# Altium footprint library zyx.PcbLib: 17 footprints (part 1 of 4)
Each footprint in its own frame and in the unit in brackets; x right, y up, seen from the top. Pads: shape width x height; smd on the part's side, far side on the other; paste and mask are expansions set on the pad; w line width, h text height; cw(c..) or ccw(c..) is an arc to the next point about the centre after c.
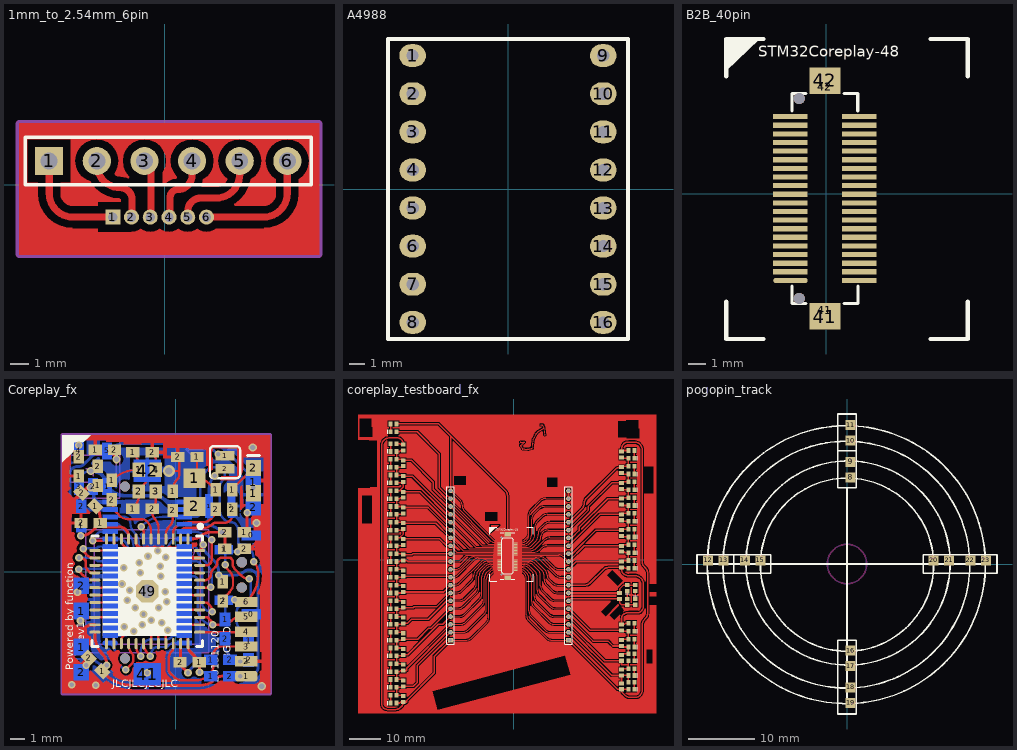
[diagram p0: the footprints below, top view; thin cyan lines are the x and y axes]

## 1mm_to_2.54mm_6pin [mm]
pads (12):
  rect 1.5x1.5 hole 0.9: 1(-6.165,1.27)
  rect 0.8x0.8 hole 0.5: 1(-2.775,-1.725)
  round 1.5 hole 0.9: 2(-3.625,1.27) 3(-1.085,1.27) 4(1.455,1.27) 5(3.995,1.27) 6(6.535,1.27)
  round 0.8 hole 0.5: 2(-1.775,-1.725) 3(-0.775,-1.725) 4(0.225,-1.725) 5(1.225,-1.725) 6(2.225,-1.725)
Top Layer:
  region: 4 vertices and 1 holes, not listed, extent -7.775,-3.725 8.225,3.275
  lines w0.381: -6.089,1.194 ccw(c-6.165,1.194) -6.165,1.27 -6.165,-0.455 ccw(c-4.895,-0.455) -4.895,-1.725 -2.775,-1.725 ; -3.625,1.27 -3.625,1.092 ccw(c-2.38,1.092) -2.38,-0.152 cw(c-2.38,-0.787) -1.745,-0.787 -1.745,-1.695 cw(c-1.775,-1.695) -1.775,-1.725 ; -1.085,1.27 cw(c-1.085,0.914) -0.729,0.914 -0.729,-1.679 cw(c-0.775,-1.679) -0.775,-1.725 ; 0.225,-1.725 ccw(c0.225,-1.663) 0.287,-1.663 0.287,-0.66 cw(c0.693,-0.66) 0.693,-0.254 ccw(c0.693,0.508) 1.455,0.508 1.455,1.27 ; 1.225,-1.725 ccw(c1.225,-1.724) 1.226,-1.724 1.226,-1.397 cw(c1.912,-1.397) 1.912,-0.711 2.725,-0.711 ccw(c2.725,0.559) 3.995,0.559 3.995,1.27 ; 2.225,-1.725 5.265,-1.725 ccw(c5.265,-0.455) 6.535,-0.455 6.535,1.27
Top Overlay:
  lines w0.2: -7.435,0 -7.435,2.54 7.805,2.54 7.805,0 -7.435,0
Mechanical 1:
  lines w0.381: -7.775,-3.725 8.225,-3.725 8.225,3.275 -7.775,3.275 -7.775,-3.725

## A4988 [mil]
pads (16):
  oval 70x60 hole 32: 1(-250.39,350) 2(-250,250) 3(-250,150) 4(-250,50) 5(-250,-50) 6(-250,-150) 7(-250,-250) 8(-250,-350) 9(250,350) 10(250,250) 11(250,150) 12(250,50) 13(250,-50) 14(250,-150) 15(250,-250) 16(250,-350)
Top Overlay:
  lines w10: -314.96,-393.7 -314.96,393.7 314.96,393.7 314.96,-393.7 -314.96,-393.7

## B2B_40pin [mm]
pads (84):
  rrect100% 1x0.3 smd: 1(-2.575,-5.025)
  rrect100% 1.6x0.3 smd: 1(-1.875,-5.025)
  rect 1.6x0.3 smd: 2(1.725,-5.025) 3(-1.875,-4.525) 4(1.725,-4.525) 5(-1.875,-4.025) 6(1.725,-4.025) 7(-1.875,-3.525) 8(1.725,-3.525) 9(-1.875,-3.025) 10(1.725,-3.025) 11(-1.875,-2.525) 12(1.725,-2.525) 13(-1.875,-2.025) 14(1.725,-2.025) 15(-1.875,-1.525) 16(1.725,-1.525) 17(-1.875,-1.025) 18(1.725,-1.025) 19(-1.875,-0.525) 20(1.725,-0.525) 21(-1.875,-0.025) 22(1.725,-0.025) 23(-1.875,0.475) 24(1.725,0.475) 25(-1.875,0.975) 26(1.725,0.975) 27(-1.875,1.475) 28(1.725,1.475) 29(-1.875,1.975) 30(1.725,1.975) 31(-1.875,2.475) 32(1.725,2.475) 33(-1.875,2.975) 34(1.725,2.975) 35(-1.875,3.475) 36(1.725,3.475) 37(-1.875,3.975) 38(1.725,3.975) 39(-1.875,4.475) 40(1.725,4.475)
  rect 1x0.3 smd: 2(2.425,-5.025) 3(-2.575,-4.525) 4(2.425,-4.525) 5(-2.575,-4.025) 6(2.425,-4.025) 7(-2.575,-3.525) 8(2.425,-3.525) 9(-2.575,-3.025) 10(2.425,-3.025) 11(-2.575,-2.525) 12(2.425,-2.525) 13(-2.575,-2.025) 14(2.425,-2.025) 15(-2.575,-1.525) 16(2.425,-1.525) 17(-2.575,-1.025) 18(2.425,-1.025) 19(-2.575,-0.525) 20(2.425,-0.525) 21(-2.575,-0.025) 22(2.425,-0.025) 23(-2.575,0.475) 24(2.425,0.475) 25(-2.575,0.975) 26(2.425,0.975) 27(-2.575,1.475) 28(2.425,1.475) 29(-2.575,1.975) 30(2.425,1.975) 31(-2.575,2.475) 32(2.425,2.475) 33(-2.575,2.975) 34(2.425,2.975) 35(-2.575,3.475) 36(2.425,3.475) 37(-2.575,3.975) 38(2.425,3.975) 39(-2.575,4.475) 40(2.425,4.475)
  rect 1.8x1.5 smd: 41(-0.075,-7.125) 42(-0.075,6.575)
  rect 1.8x0.85 smd: 41(-0.075,-6.75) 42(-0.075,6.2)
via -1.575,-6.075 diameter 0.66 hole 0.66
via -1.575,5.525 diameter 0.66 hole 0.66
Top Overlay:
  region: -5.797,8.978 -3.897,8.978 -5.797,7.14
  lines w0.178: -1.975,-5.355 -1.975,-6.375 -1.167,-6.375 ; -1.975,4.805 -1.975,5.825 -1.167,5.825 ; 1.017,5.825 1.825,5.825 1.825,4.805 ; 1.043,-6.375 1.85,-6.375 1.85,-5.355
  lines w0.254: -5.797,-6.262 -5.798,-8.423 -3.637,-8.423 ; -5.798,6.817 -5.797,8.978 -3.637,8.978 ; 6.042,-8.422 8.203,-8.422 8.203,-6.262 ; 6.042,8.978 8.203,8.978 8.202,6.817
  text "STM32Coreplay-48" at -3.943,7.935 h0.64

## Coreplay_fx [mm]
pads (168):
  rect 1.3x0.65 smd far side: 0(5.074,-2.861) 0(5.074,2.439)
  rect 0.7x0.9 smd: 1(-6.53,6.441) 1(-5.26,5.806) 1(-4.307,6.154) 1(-0.212,5.424) 1(2.678,5.519) 1(3.154,-0.672) 1(3.789,5.519) 2(-6.53,7.741) 2(-5.26,7.106) 2(-4.307,4.854) 2(-0.212,4.124) 2(2.678,4.219) 2(3.154,-1.972) 2(3.789,4.219)
  rect 1x1.1 smd far side: 1(-6.371,-5.076) 1(-6.371,-2.649) 1(5.218,6.036) 2(-6.371,-6.776) 2(-6.371,-0.949) 2(5.218,4.336)
  rect 0.7x0.9 smd far side: 1(-6.371,3.108) 1(3.313,-3.212) 1(4.9,-4.641) 2(-6.371,4.408) 2(3.313,-4.512) 2(4.9,-5.941)
  rect 0.7x0.9 smd rot 45: 1(-5.435,4.409) 1(-4.959,-6.703) 2(-6.354,5.329) 2(-5.878,-5.784)
  rect 0.9x0.7 smd: 1(-5.433,8.203) 1(-5.086,3.281) 1(-2.893,4.234) 1(-2.893,8.044) 1(1.423,7.726) 1(1.581,-6.085) 1(3.298,1.535) 1(4.598,2.646) 2(-6.386,3.281) 2(-4.133,8.203) 2(-1.593,4.234) 2(-1.593,8.044) 2(0.123,7.726) 2(0.281,-6.085) 2(3.298,2.646) 2(4.598,1.535)
  rect 0.65x1.1 smd far side: 1(-4.627,5.733) 2(-5.577,5.733) 3(-6.527,5.733) 4(-6.527,8.133) 5(-4.627,8.133)
  rrect100% 1x0.3 smd far side: 1(-4.426,-4.802)
  rect 0.85x0.95 smd: 1(-2.501,6.864) 2(-2.501,5.414) 3(-1.351,5.414) 4(-1.351,6.864)
  oval 0.2x0.75 smd: 1(0.824,2.203) 2(0.324,2.203) 3(-0.176,2.203) 4(-0.676,2.203) 5(-1.176,2.203) 6(-1.676,2.203) 7(-2.176,2.203) 8(-2.676,2.203) 9(-3.176,2.203) 10(-3.676,2.203) 11(-4.176,2.203) 12(-4.676,2.203) 25(-4.676,-4.847) 26(-4.176,-4.847) 27(-3.676,-4.847) 28(-3.176,-4.847) 29(-2.676,-4.847) 30(-2.176,-4.847) 31(-1.676,-4.847) 32(-1.176,-4.847) 33(-0.676,-4.847) 34(-0.176,-4.847) 35(0.324,-4.847) 36(0.824,-4.847)
  rect 1.5x1.3 smd: 1(1.249,6.295) 2(1.249,4.395)
  rect 0.5x1.6 smd far side: 1(2.245,4.421)
  rect 0.9x0.7 smd far side: 1(2.345,-7.037) 1(2.345,-5.926) 2(3.645,-7.037) 2(3.645,-5.926)
  rect 1.2x0.6 smd far side: 1(3.224,1.489) 2(3.224,-1.911)
  rect 1.27x0.635 smd: 1(3.313,7.822) 2(3.313,6.933)
  rrect50% 1.5x0.7 smd: 1(4.741,-7.037)
  rect 1x1.1 smd: 1(5.218,5.289) 2(5.218,6.989)
  rect 1x0.3 smd far side: 2(0.574,-4.802) 3(-4.426,-4.302) 4(0.574,-4.302) 5(-4.426,-3.802) 6(0.574,-3.802) 7(-4.426,-3.302) 8(0.574,-3.302) 9(-4.426,-2.802) 10(0.574,-2.802) 11(-4.426,-2.302) 12(0.574,-2.302) 13(-4.426,-1.802) 14(0.574,-1.802) 15(-4.426,-1.302) 16(0.574,-1.302) 17(-4.426,-0.802) 18(0.574,-0.802) 19(-4.426,-0.302) 20(0.574,-0.302) 21(-4.426,0.198) 22(0.574,0.198) 23(-4.426,0.698) 24(0.574,0.698) 25(-4.426,1.198) 26(0.574,1.198) 27(-4.426,1.698) 28(0.574,1.698) 29(-4.426,2.198) 30(0.574,2.198) 31(-4.426,2.698) 32(0.574,2.698) 33(-4.426,3.198) 34(0.574,3.198) 35(-4.426,3.698) 36(0.574,3.698) 37(-4.426,4.198) 38(0.574,4.198) 39(-4.426,4.698) 40(0.574,4.698)
  rrect50% 0.5x1.6 smd far side: 2(3.745,4.421)
  rect 1.5x0.7 smd: 2(4.741,-6.037) 3(4.741,-5.037) 4(4.741,-4.037) 5(4.741,-3.037) 6(4.741,-2.037)
  oval 0.75x0.2 smd: 13(-5.451,1.428) 14(-5.451,0.928) 15(-5.451,0.428) 16(-5.451,-0.072) 17(-5.451,-0.572) 18(-5.451,-1.072) 19(-5.451,-1.572) 20(-5.451,-2.072) 21(-5.451,-2.572) 22(-5.451,-3.072) 23(-5.451,-3.572) 24(-5.451,-4.072) 37(1.599,-4.072) 38(1.599,-3.572) 39(1.599,-3.072) 40(1.599,-2.572) 41(1.599,-2.072) 42(1.599,-1.572) 43(1.599,-1.072) 44(1.599,-0.572) 45(1.599,-0.072) 46(1.599,0.428) 47(1.599,0.928) 48(1.599,1.428)
  rect 1.8x1.5 smd far side: 41(-1.926,-6.902) 42(-1.926,6.798)
  oct 1.5x1.5 hole 0.9: 49(-1.926,-1.322)
via 5.783,-7.71 diameter 0.554 hole 0.35
via 5.224,5.65 diameter 0.508 hole 0.3
via 4.792,3.986 diameter 0.508 hole 0.3
via 5.173,8.368 diameter 0.554 hole 0.35
via -1.215,1.408 diameter 0.508 hole 0.3
via -2.726,-2.427 diameter 0.508 hole 0.3
via -3.107,-1.259 diameter 0.508 hole 0.3
via -3.628,-0.827 diameter 0.508 hole 0.3
via -3.285,-1.932 diameter 0.508 hole 0.3
via -2.18,-2.859 diameter 0.508 hole 0.3
via -2.269,-3.558 diameter 0.508 hole 0.3
via -3.488,-3.697 diameter 0.508 hole 0.3
via -2.828,-4.015 diameter 0.508 hole 0.3
via -3.361,-6.593 diameter 0.508 hole 0.3
via -2.371,-5.691 diameter 0.508 hole 0.3
via -1.71,-5.691 diameter 0.508 hole 0.3
via -0.542,-3.951 diameter 0.508 hole 0.3
via -0.961,-3.431 diameter 0.508 hole 0.3
via -1.659,-3.278 diameter 0.508 hole 0.3
via -1.164,-2.415 diameter 0.508 hole 0.3
via -0.618,-2.034 diameter 0.508 hole 0.3
via -0.72,-1.36 diameter 0.508 hole 0.3
via -1.024,-0.319 diameter 0.508 hole 0.3
via 2.481,-3.57 diameter 0.508 hole 0.3
via 2.455,-2.707 diameter 0.508 hole 0.3
via -1.05,0.379 diameter 0.508 hole 0.3
via -0.681,0.976 diameter 0.508 hole 0.3
via 2.417,2.145 diameter 0.508 hole 0.3
via -1.875,1.027 diameter 0.508 hole 0.3
via -2.459,0.595 diameter 0.508 hole 0.3
via -6.409,2.424 diameter 0.508 hole 0.3
via -5.609,2.094 diameter 0.508 hole 0.3
via -2.383,-0.078 diameter 0.508 hole 0.3
via -6.244,1.561 diameter 0.508 hole 0.3
via -3.501,0.265 diameter 0.508 hole 0.3
via -6.536,0.151 diameter 0.508 hole 0.3
via -6.523,0.938 diameter 0.508 hole 0.3
via -6.422,-3.304 diameter 0.508 hole 0.3
via 1.846,1.802 diameter 0.508 hole 0.3
via 2.9,-0.23 diameter 0.508 hole 0.3
via 1.592,-6.758 diameter 0.508 hole 0.3
via 0.817,-6.796 diameter 0.508 hole 0.3
via 2.608,6.463 diameter 0.508 hole 0.3
via -2.32,3.034 diameter 0.508 hole 0.3
via 4.348,-7.05 diameter 0.508 hole 0.3
via 4.348,-6.047 diameter 0.508 hole 0.3
via 5.237,0.684 diameter 0.508 hole 0.3
via 4.957,-0.484 diameter 0.508 hole 0.3
via 2.849,7.898 diameter 0.508 hole 0.3
via -4.669,-6.301 diameter 0.508 hole 0.3
via -0.466,6.78 diameter 0.805 hole 0.5
via -6.041,-6.288 diameter 0.508 hole 0.3
via 2.341,-1.056 diameter 0.508 hole 0.3
via 3.332,0.456 diameter 0.508 hole 0.3
via 5.427,3.275 diameter 0.554 hole 0.35
via 3.967,-1.881 diameter 0.508 hole 0.3
via 4.157,1.357 diameter 0.508 hole 0.3
via 3.103,2.665 diameter 0.508 hole 0.3
via -1.926,-6.809 diameter 0.508 hole 0.3
via -5.406,-7.634 diameter 0.508 hole 0.3
via -7.006,-7.609 diameter 0.508 hole 0.3
via -6.625,-1.373 diameter 0.508 hole 0.3
via -6.53,8.52 diameter 0.508 hole 0.3
via -3.99,7.568 diameter 0.554 hole 0.35
via -5.736,6.774 diameter 0.554 hole 0.35
via -5.749,5.688 diameter 0.554 hole 0.35
via 4.424,0.639 diameter 0.7 hole 0.7
via 4.424,-1.061 diameter 0.7 hole 0.7
via -3.426,5.748 diameter 0.66 hole 0.66
via -3.426,-5.852 diameter 0.66 hole 0.66
Top Layer:
  region: 4 vertices and 5 holes, not listed, extent -7.649,-8.2 6.351,9.2
  region: -0.858,-5.304 -0.774,-5.36 -0.709,-5.373 -0.658,-5.468 -0.653,-5.495 -0.703,-5.615 -0.733,-5.846 -0.73,-5.846 -0.73,-6.545 -0.732,-6.545 -0.709,-6.717 -0.643,-6.876 -0.538,-7.013 -0.537,-7.012 -0.279,-7.27 -0.282,-7.273 -0.275,-7.278 -0.316,-7.398 -2.953,-7.398 -2.964,-7.401 -3.398,-7.358 -3.827,-7.228 -4.156,-7.052 -4.182,-7.013 -4.205,-6.998 -4.207,-6.981 -4.231,-6.966 -4.243,-6.839 -4.178,-6.774 -4.369,-6.583 -4.286,-6.459 -4.255,-6.301 -4.286,-6.142 -4.376,-6.008 -4.425,-5.975 -4.435,-5.905 -4.561,-5.6 -4.65,-5.484 -4.605,-5.366 -4.578,-5.36 -4.494,-5.304 -4.49,-5.297 -4.362,-5.297 -4.358,-5.304 -4.274,-5.36 -4.176,-5.38 -4.078,-5.36 -3.994,-5.304 -3.99,-5.297 -3.863,-5.297 -3.858,-5.304 -3.774,-5.36 -3.77,-5.361 -3.745,-5.485 -3.774,-5.505 -3.88,-5.664 -3.918,-5.852 -3.88,-6.041 -3.774,-6.2 -3.654,-6.28 -3.654,-6.3 -3.744,-6.434 -3.775,-6.593 -3.744,-6.751 -3.654,-6.886 -3.52,-6.976 -3.361,-7.007 -3.203,-6.976 -3.068,-6.886 -2.978,-6.751 -2.947,-6.593 -2.946,-6.593 -2.931,-6.522 -2.891,-6.462 -2.893,-6.46 -2.813,-6.379 -2.709,-6.242 -2.653,-6.109 -2.532,-6.072 -2.529,-6.074 -2.371,-6.105 -2.212,-6.074 -2.078,-5.984 -2.003,-5.984 -1.869,-6.074 -1.71,-6.105 -1.552,-6.074 -1.417,-5.984 -1.327,-5.85 -1.296,-5.691 -1.327,-5.533 -1.397,-5.428 -1.307,-5.338 -1.274,-5.36 -1.176,-5.38 -1.078,-5.36 -0.994,-5.304 -0.99,-5.297 -0.863,-5.297
  region: 1.448,1.884 1.432,1.802 1.435,1.783 1.355,1.685 1.324,1.685 1.226,1.665 1.142,1.61 1.086,1.526 1.067,1.428 1.086,1.329 1.099,1.311 1.074,1.186 1.069,1.183 0.991,1.066 0.988,1.055 1.599,1.055 1.599,0.801 0.988,0.801 0.991,0.79 1.069,0.672 1.074,0.669 1.099,0.545 1.086,0.526 1.067,0.428 1.086,0.329 1.12,0.279 1.06,0.167 0.766,0.167 0.766,0.168 0.476,0.197 0.196,0.282 -0.061,0.419 -0.287,0.604 -0.288,0.604 -0.292,0.607 -0.352,0.696 -0.326,0.757 -0.33,0.771 -0.299,0.818 -0.267,0.976 -0.299,1.135 -0.388,1.269 -0.523,1.359 -0.681,1.391 -0.84,1.359 -0.974,1.269 -1.064,1.135 -1.096,0.976 -1.077,0.88 -1.147,0.774 -1.208,0.762 -1.343,0.672 -1.433,0.538 -1.464,0.379 -1.433,0.221 -1.343,0.086 -1.317,0.07 -1.317,-0.026 -1.407,-0.16 -1.439,-0.318 -1.917,-0.318 -1.997,-0.22 -1.969,-0.078 -2,0.081 -2.09,0.215 -2.108,0.227 -2.133,0.352 -2.077,0.437 -2.045,0.595 -1.916,0.621 -1.875,0.613 -1.717,0.644 -1.582,0.734 -1.492,0.869 -1.461,1.027 -1.492,1.186 -1.582,1.32 -1.717,1.41 -1.875,1.442 -2.034,1.41 -2.037,1.408 -2.038,1.408 -2.055,1.402 -2.098,1.407 -2.105,1.409 -2.106,1.408 -2.218,1.423 -2.218,1.422 -2.223,1.421 -2.42,1.46 -2.485,1.503 -2.485,1.63 -2.421,1.672 -2.417,1.677 -2.293,1.702 -2.274,1.69 -2.176,1.67 -2.078,1.69 -1.994,1.746 -1.99,1.753 -1.862,1.753 -1.858,1.746 -1.774,1.69 -1.676,1.67 -1.578,1.69 -1.494,1.746 -1.49,1.753 -1.363,1.753 -1.358,1.746 -1.274,1.69 -1.176,1.67 -1.078,1.69 -0.994,1.746 -0.99,1.753 -0.863,1.753 -0.858,1.746 -0.774,1.69 -0.676,1.67 -0.578,1.69 -0.494,1.746 -0.49,1.753 -0.363,1.753 -0.358,1.746 -0.274,1.69 -0.176,1.67 -0.078,1.69 0.006,1.746 0.01,1.753 0.137,1.753 0.142,1.746 0.226,1.69 0.324,1.67 0.422,1.69 0.506,1.746 0.51,1.753 0.637,1.753 0.642,1.746 0.726,1.69 0.824,1.67 0.922,1.69 1.006,1.746 1.062,1.829 1.081,1.928 1.081,1.953 1.177,1.953 1.361,1.977
  lines w0.152: -4.307,4.854 ccw(c-2.933,4.854) -3.905,3.882 -3.78,3.758 ccw(c-3.259,4.279) -3.259,3.542 -2.325,3.542 cw(c-2.325,2.978) -1.926,3.377 cw(c-2.53,2.773) -1.676,2.773 -1.676,2.203 ; -4.307,6.154 cw(c-2.593,4.44) -2.593,6.864 -2.501,6.864 -2.501,7.096 ccw(c-3.841,7.096) -2.893,8.044 cw(c-3.075,7.863) -2.819,7.863 ; -2.819,5.414 cw(c-2.318,5.414) -2.672,5.768 ; -1.669,6.864 ccw(c-1.85,7.045) -1.593,7.045 ; -1.593,8.044 cw(c-2.179,7.459) -1.351,7.459 -1.351,6.864 ; -1.351,5.414 -1.351,4.819 cw(c-2.179,4.819) -1.593,4.234 -1.593,3.991 ccw(c-0.994,3.991) -1.418,3.567 cw(c-2.002,2.983) -1.176,2.983 -1.176,2.203 ; -0.667,6.864 cw(c-0.667,6.578) -0.466,6.781 ; -0.212,5.424 -0.212,5.491 cw(c0.786,5.491) 0.081,6.196 ccw(c-0.287,6.564) 0.233,6.564 0.233,6.793 ; 0.123,7.726 cw(c-0.143,7.46) 0.233,7.46 0.233,6.793 ; 2.212,-1.072 ccw(c2.212,-1.015) 2.252,-1.056 ; -0.466,6.78 ccw(c-0.667,6.578) -0.466,6.781 ; -0.466,6.78 0.202,6.78 ccw(c0.202,6.824) 0.233,6.793
  lines w0.165: -6.536,0.151 ccw(c-6.291,0.151) -6.464,-0.023 -6.242,-0.245 ccw(c-5.451,0.547) -5.451,-0.572 -5.565,-0.572 ; -6.53,7.741 -6.53,8.52 ; -6.431,0.938 -6.523,0.938 cw(c-6.523,0.35) -6.108,0.766 cw(c-6.221,0.653) -6.061,0.653 -6.061,0.407 ccw(c-5.645,0.407) -5.939,0.113 -5.833,0.007 ccw(c-5.643,0.197) -5.643,-0.072 -5.451,-0.072 ; -6.244,1.561 ccw(c-5.815,1.561) -6.118,1.257 -6.028,1.167 ccw(c-5.451,1.743) -5.451,0.928 ; -5.609,2.094 -4.938,2.094 ccw(c-4.938,2.465) -4.676,2.203 ; -5.451,-3.072 -4.896,-3.072 ccw(c-4.896,-2.517) -4.504,-2.91 cw(c-4.181,-3.233) -4.181,-2.776 -3.304,-2.776 cw(c-3.304,-3.183) -3.016,-2.895 -2.886,-3.026 -2.886,-3.026 ; -5.451,-2.572 -4.874,-2.572 ccw(c-4.874,-2.337) -4.707,-2.503 cw(c-4.565,-2.646) -4.565,-2.444 -2.768,-2.444 ccw(c-2.768,-2.386) -2.726,-2.427 ; -5.451,-2.072 -3.593,-2.072 ccw(c-3.593,-1.667) -3.307,-1.954 ; -5.451,-1.572 -3.999,-1.572 ccw(c-3.999,-1.066) -3.641,-1.424 cw(c-3.242,-1.822) -3.242,-1.259 -3.107,-1.259 ; -5.451,-1.072 -4.805,-1.072 ccw(c-4.805,-0.538) -4.428,-0.916 cw(c-4.213,-1.131) -4.213,-0.827 -3.628,-0.827 ; -5.451,0.428 -4.405,0.428 cw(c-4.405,0.046) -4.136,0.316 ccw(c-4.013,0.439) -4.013,0.265 -3.501,0.265 ; -5.451,1.428 -4.861,1.428 cw(c-4.861,0.399) -4.133,1.126 -4.104,1.097 ; -4.676,-4.847 -4.676,-4.117 cw(c-4.263,-4.117) -4.555,-3.824 -4.041,-3.311 cw(c-3.564,-3.788) -3.564,-3.113 -3.506,-3.113 cw(c-3.506,-3.677) -3.107,-3.278 ccw(c-2.433,-2.604) -2.433,-3.558 -2.269,-3.558 ; -4.176,-4.847 -4.176,-4.288 cw(c-3.735,-4.288) -4.047,-3.977 -3.965,-3.895 cw(c-3.488,-4.372) -3.488,-3.697 ; -4.176,1.994 -4.176,2.203 ccw(c-3.244,2.203) -3.903,1.544 -3.798,1.439 ccw(c-3.441,1.796) -3.441,1.291 cw(c-3.441,0.6) -2.953,1.089 ; -3.676,-4.847 -3.676,-4.661 ; -3.676,-4.526 -3.676,-4.661 ; -3.676,2.203 -3.676,2.13 ccw(c-3.133,2.13) -3.133,1.586 cw(c-3.133,1.12) -2.803,1.449 -2.76,1.407 ; -3.361,-6.593 -3.361,-6.586 -2.983,-6.209 ccw(c-3.279,-5.913) -2.861,-5.913 -2.861,-5.678 ccw(c-3.005,-5.678) -2.903,-5.576 cw(c-2.245,-4.918) -3.176,-4.918 -3.176,-4.847 ; -2.893,4.234 ccw(c-3.841,5.182) -2.501,5.182 -2.501,5.414 -1.351,6.864 ; -2.886,-3.026 ccw(c-2.675,-2.815) -2.886,-3.026 ; -2.828,-4.015 cw(c-3.318,-3.524) -3.318,-4.218 -3.391,-4.218 ccw(c-3.391,-4.391) -3.514,-4.269 ccw(c-3.121,-4.661) -3.676,-4.661 ; -2.676,-5.151 -2.676,-4.954 ; -2.676,-4.847 -2.676,-4.954 ; -2.565,-0.078 cw(c-2.565,0.299) -2.942,0.299 ccw(c-3.18,0.299) -3.012,0.468 -3.314,0.77 ; -2.525,-0.019 ccw(c-2.383,0.123) -2.383,-0.078 ; -2.459,0.595 -2.952,1.088 ; -2.371,-5.691 cw(c-1.633,-4.954) -2.676,-4.954 ; -2.32,3.034 cw(c-2.667,2.687) -2.176,2.687 -2.176,2.203 ; -2.18,-2.859 -2.263,-2.942 cw(c-2.675,-2.53) -2.675,-3.113 cw(c-2.675,-2.815) -2.886,-3.026 ; -2.176,-5.149 -2.176,-4.847 ccw(c-1.339,-4.847) -1.931,-5.439 -1.732,-5.638 ; -1.897,1.049 ccw(c-2.218,0.729) -2.218,1.182 cw(c-2.218,1.948) -2.76,1.406 ; -1.71,-5.691 ccw(c-1.785,-5.691) -1.732,-5.638 ; -1.676,-4.847 ccw(c-1.716,-4.807) -1.659,-4.807 -1.659,-3.278 ; -1.176,-4.847 -1.176,-3.937 cw(c-0.472,-3.937) -0.97,-3.439 -0.961,-3.431 ; -1.164,-2.415 0.07,-3.649 cw(c-0.537,-4.256) 0.322,-4.256 0.322,-4.845 0.324,-4.847 ; -1.05,0.379 cw(c-1.05,0.288) -0.985,0.353 0.779,-1.411 ccw(c1.168,-1.022) 1.168,-1.572 1.599,-1.572 ; -1.024,-0.319 cw(c-1.024,-0.626) -0.807,-0.409 0.586,-1.802 ; -0.72,-1.36 cw(c-0.72,-1.667) -0.503,-1.45 0.329,-2.282 ; -0.681,0.976 ccw(c0.085,0.976) -0.457,0.434 ccw(c0.766,1.658) 0.766,-0.072 1.599,-0.072 ; -0.676,-4.847 -0.676,-4.275 cw(c-0.217,-4.275) -0.542,-3.951 ; -0.676,2.203 -0.676,2.459 cw(c0.173,2.459) -0.427,3.059 ccw(c-0.949,3.58) -0.212,3.58 -0.212,4.124 0.594,4.124 ccw(c0.594,5.051) 1.249,4.395 ; -0.618,-2.034 -0.618,-2.327 ccw(c-0.235,-2.327) -0.506,-2.598 0.174,-3.278 cw(c-1.395,-4.847) 0.824,-4.847 ; -0.176,-4.847 -0.176,-5.086 cw(c-0.601,-5.086) -0.3,-5.386 ccw(c0.16,-5.846) -0.491,-5.846 -0.491,-6.545 ccw(c-0.07,-6.545) -0.368,-6.843 -0.11,-7.101 ccw(c0.421,-6.57) 0.421,-7.321 1.319,-7.321 ccw(c1.319,-5.967) 2.276,-6.924 ccw(c1.691,-6.339) 2.519,-6.339 2.519,-5.661 cw(c3.213,-5.661) 2.722,-5.17 cw(c3.044,-5.492) 3.044,-5.037 4.741,-5.037 ; -0.176,2.203 -0.176,2.681 cw(c0.18,2.681) -0.072,2.932 -0.046,2.958 cw(c0.843,2.069) 0.843,3.326 1.806,3.326 ccw(c1.806,4.102) 2.355,3.553 2.435,3.633 ccw(c1.849,4.219) 2.678,4.219 ; 0.324,2.203 0.324,2.536 cw(c0.794,2.536) 0.462,2.869 cw(c0.676,2.654) 0.676,2.958 1.886,2.958 ccw(c1.886,3.781) 2.468,3.199 cw(c2.713,2.954) 2.713,3.3 3.276,3.3 ccw(c3.276,3.864) 3.675,3.466 ccw(c3.399,3.742) 3.789,3.742 3.789,4.219 ; 1.423,7.726 1.423,6.715 cw(c0.83,6.715) 1.249,6.295 cw(c1.249,4.72) 2.363,5.834 2.678,5.519 ; 1.599,-4.072 4.657,-4.072 ccw(c4.657,-3.953) 4.741,-4.037 ; 1.599,-3.572 1.177,-3.572 cw(c1.177,-3.02) 0.786,-3.411 cw(c1.632,-2.565) 0.436,-2.565 0.436,-2.542 ccw(c0.068,-2.542) 0.329,-2.282 ; 1.599,-3.072 2.078,-3.072 cw(c2.078,-3.211) 2.176,-3.113 2.373,-3.31 ; 1.599,-2.572 1.231,-2.572 cw(c1.231,-2.016) 0.838,-2.41 cw(c1.163,-2.084) 0.703,-2.084 ccw(c0.304,-2.084) 0.586,-1.803 ; 1.599,-2.072 1.994,-2.072 cw(c1.994,-2.33) 2.176,-2.148 ; 1.599,-1.072 2.212,-1.072 2.301,-1.072 ccw(c2.301,-1.015) 2.341,-1.056 ; 1.599,-0.572 1.938,-0.572 ccw(c1.938,-0.119) 2.259,-0.439 ccw(c1.999,-0.179) 2.367,-0.179 cw(c2.857,-0.179) 2.51,0.168 2.519,0.176 ; 1.599,0.428 2.039,0.428 ccw(c2.039,0.783) 2.29,0.532 ccw(c1.984,0.839) 2.417,0.839 2.417,2.145 ; 2.455,-2.707 ccw(c1.781,-2.707) 2.258,-2.23 2.176,-2.148 ; 3.154,-1.972 cw(c3.447,-1.972) 3.24,-1.765 3.51,-1.495 ccw(c2.499,-0.484) 3.849,-0.956 3.849,-0.518 ccw(c3.082,-0.518) 3.624,0.024 3.449,0.199 ; 3.332,0.456 ccw(c3.669,0.456) 3.43,0.217 ; 3.789,5.519 cw(c3.889,5.519) 3.818,5.589 5.218,6.989 ; 4.657,-3.072 ccw(c4.657,-2.953) 4.741,-3.037 4.363,-3.037 ccw(c4.363,-3.903) 3.751,-3.291 cw(c3.076,-2.616) 3.076,-3.57 2.481,-3.57 ccw(c2.113,-3.57) 2.373,-3.31 ; 4.741,-2.037 4.798,-1.981 ccw(c3.002,-0.185) 5.542,-0.185 5.535,-0.179 5.535,-0.036 ccw(c4.516,-0.036) 5.237,0.684 ; 4.957,-0.484 cw(c4.957,0.313) 4.394,-0.251 3.964,0.179 cw(c4.266,0.481) 3.839,0.481 3.839,0.644 ccw(c3.495,0.644) 3.738,0.887 ccw(c3.587,0.736) 3.587,0.95 3.122,0.95 ccw(c3.122,0.614) 2.786,0.614 cw(c2.372,0.614) 2.665,0.322 ; -4.104,1.097 ccw(c-3.475,1.726) -4.104,1.097 ; -4.104,1.097 -4.104,1.097 ; -4.104,1.097 ccw(c-3.475,1.726) -3.475,0.837 cw(c-3.475,0.608) -3.314,0.77 ; -3.314,0.77 cw(c-3.475,0.608) -3.314,0.77 ; -3.314,0.77 -3.314,0.77 ; -2.952,1.088 ccw(c-3.441,0.6) -2.953,1.089 ; -2.953,1.089 -2.952,1.088 ; -2.76,1.406 cw(c-2.218,1.948) -2.76,1.407 ; -2.76,1.406 -2.76,1.407 ; -1.732,-5.638 ccw(c-1.785,-5.691) -1.732,-5.638 ; -1.732,-5.638 -1.732,-5.638 ; 0.329,-2.282 ccw(c0.068,-2.542) 0.328,-2.281 0.329,-2.282 ; 0.586,-1.803 ccw(c0.304,-2.084) 0.586,-1.802 ; 0.586,-1.802 0.586,-1.803 ; 2.176,-2.148 ccw(c1.994,-2.33) 2.176,-2.148 ; 2.176,-2.148 2.176,-2.148 ; 2.373,-3.31 ccw(c2.113,-3.57) 2.373,-3.31 ; 2.373,-3.31 2.373,-3.31 ; 2.519,0.176 ccw(c2.713,-0.017) 2.519,0.176 ; 2.519,0.176 2.519,0.176 ; 2.519,0.176 2.664,0.322 ; 2.664,0.322 ccw(c2.372,0.614) 2.665,0.322 ; 2.664,0.322 2.665,0.322 ; 3.43,0.217 ccw(c3.669,0.456) 3.431,0.217 ; 3.43,0.217 3.431,0.217 ; 3.431,0.217 3.448,0.199 ; 3.448,0.199 ccw(c3.73,0.481) 3.449,0.199 ; 3.448,0.199 3.449,0.199
  lines w0.178: 0.824,2.203 1.177,2.203 ccw(c1.177,2.991) 1.735,2.434 cw(c2.249,1.92) 2.249,2.646 3.298,2.646
  lines w0.203: -6.625,-1.373 -7.059,-1.373 cw(c-7.059,-1.286) -7.12,-1.348 ; -6.422,-3.304 cw(c-5.864,-3.862) -5.864,-3.072 -5.451,-3.072 ; -6.409,5.461 ccw(c-6.222,5.461) -6.354,5.329 -6.376,5.307 ccw(c-4.58,3.511) -7.12,3.511 -7.12,3.288 ; -6.386,3.281 -7.114,3.281 -7.12,3.288 ; -6.383,2.45 -6.409,2.424 ccw(c-6.409,3.549) -5.614,2.754 -5.086,3.281 ; -5.756,-3.572 -5.632,-3.572 ; -5.451,-4.072 -5.451,-4.313 ccw(c-3.736,-4.313) -4.949,-5.526 cw(c-5.654,-6.231) -4.657,-6.231 cw(c-5.066,-6.231) -4.776,-6.521 -4.959,-6.703 -4.749,-6.913 ccw(c-2.953,-5.117) -2.953,-7.657 1.627,-7.657 ccw(c1.627,-6.234) 2.633,-7.241 cw(c3.124,-7.731) 3.124,-7.037 4.741,-7.037 ; -5.451,-3.572 -5.632,-3.572 ; -5.435,4.409 cw(c-6.278,3.566) -5.086,3.566 -5.086,3.281 ; -4.133,8.203 -4.133,7.915 ccw(c-3.643,7.915) -3.99,7.568 ; -3.176,2.203 -3.176,2.379 ccw(c-3.806,2.379) -3.806,3.008 -4.813,3.008 cw(c-4.813,3.281) -5.086,3.281 ; -2.676,2.203 -2.676,1.937 ccw(c-2.413,1.937) -2.599,1.751 ccw(c-2.088,2.262) -2.088,1.54 -1.215,1.54 ; -1.926,-1.322 -1.926,-0.581 cw(c0.025,-0.581) -1.355,0.799 ccw(c-1.692,1.136) -1.215,1.136 -1.215,1.408 -1.215,1.54 ; -1.593,8.044 -1.593,8.198 ; 0.324,-4.847 0.324,-5.982 cw(c0.179,-5.982) 0.281,-6.085 ; 0.388,-6.341 cw(c0.644,-6.085) 0.281,-6.085 ; 0.817,-6.796 0.406,-6.384 cw(c0.705,-6.085) 0.281,-6.085 ; 0.824,-4.847 0.824,-5.047 ccw(c1.321,-5.047) 0.97,-5.399 1.529,-5.959 ; 1.592,-6.758 1.592,-6.11 ccw(c1.556,-6.11) 1.581,-6.085 ccw(c1.403,-6.085) 1.529,-5.959 ; 1.599,0.928 0.746,0.928 cw(c0.746,2.048) -0.046,1.256 ccw(c-0.731,0.571) -0.731,1.54 -1.215,1.54 ; 1.599,1.428 1.756,1.585 ccw(c1.539,1.802) 1.846,1.802 ; 2.608,6.463 2.912,6.767 cw(c3.313,6.365) 3.313,6.933 ; 3.175,-0.34 cw(c2.843,-0.672) 3.313,-0.672 ; 3.298,2.646 3.298,1.535 ; 4.598,2.646 ccw(c4.128,3.116) 4.792,3.116 4.792,3.986 ; 4.935,1.675 ccw(c4.935,1.198) 4.598,1.535 ccw(c4.598,2.557) 5.32,1.834 5.326,1.84 ccw(c4.896,2.269) 5.503,2.269 5.503,3.091 ccw(c5.243,3.091) 5.427,3.275 ; -7.12,-1.348 -7.12,3.288 ; -7.12,-1.348 -7.12,-3.49 ccw(c-4.58,-3.49) -6.376,-5.286 -5.878,-5.784 cw(c-4.688,-4.594) -6.371,-4.594 -6.371,-4.208 cw(c-5.935,-4.208) -6.243,-3.9 -6.117,-3.773 cw(c-5.632,-4.259) -5.632,-3.572 ; 1.529,-5.959 ccw(c1.403,-6.085) 1.529,-5.959 ; 1.529,-5.959 1.529,-5.959 ; 3.298,1.535 3.298,1.535
  lines w0.254: -6.53,6.441 -6.53,5.752 ccw(c-5.931,5.752) -6.354,5.329 ; -6.313,5.37 cw(c-5.26,4.318) -5.26,5.806
Bottom Layer:
  region: 4 vertices and 9 holes, not listed, extent -7.649,-8.2 6.351,9.2
  region: -5.18,-0.175 -4.426,-0.175 -4.426,-0.429 -5.18,-0.429 -5.18,-0.706 -5.078,-0.706 -5.078,-1.105 -5.078,-1.605 -5.078,-2.105 -5.078,-2.605 -5.078,-3.105 -5.078,-3.605 -5.078,-4.105 -5.078,-4.605 -5.047,-4.664 -5.061,-4.684 -5.084,-4.802 -5.061,-4.92 -4.994,-5.02 -4.894,-5.087 -4.776,-5.111 -4.486,-5.111 -4.395,-5.228 -4.27,-5.529 -4.229,-5.845 -4.231,-5.853 -4.233,-5.853 -4.209,-6.036 -4.328,-6.081 -4.376,-6.008 -4.511,-5.918 -4.669,-5.886 -4.828,-5.918 -4.864,-5.942 -4.878,-5.939 -4.956,-5.949 -4.957,-5.953 -4.959,-5.959 -4.959,-5.96 -5.025,-5.946 -5.046,-5.951 -5.116,-5.922 -5.301,-5.78 -5.422,-5.658 -5.418,-5.654 -5.458,-5.623 -5.556,-5.525 -5.673,-5.35 -5.716,-5.13 -5.714,-5.126 -5.719,-5.101 -5.719,-4.374 -6.243,-4.374 -6.401,-4.308 -6.567,-4.181 -6.692,-4.019 -6.697,-4.022 -6.733,-3.967 -6.753,-3.954 -6.825,-3.716 -6.83,-3.673 -6.715,-3.597 -6.58,-3.686 -6.422,-3.718 -6.263,-3.686 -6.129,-3.597 -6.039,-3.462 -6.017,-3.351 -5.719,-3.351 -5.719,-1.946 -6.866,-1.946 -6.866,-1.753 -6.498,-1.753 -6.498,-0.949 -6.371,-0.949 -6.371,-0.822 -5.617,-0.822 -5.617,-0.145 -5.617,-0.132 -5.527,-0.042 -5.18,-0.042 hole: -5.617,-1.076 -6.244,-1.076 -6.244,-1.753 -5.617,-1.753
  region: -0.078,3.395 -0.078,2.895 -0.078,2.5 -0.078,2.416 -0.101,2.413 -0.287,2.336 -0.446,2.214 -0.447,2.215 -0.649,1.968 -0.8,1.686 -0.893,1.38 -0.897,1.334 -0.898,1.334 -0.897,1.334 -0.899,1.32 -0.974,1.269 -1.064,1.135 -1.096,0.976 -1.077,0.88 -1.147,0.774 -1.208,0.762 -1.343,0.672 -1.433,0.538 -1.464,0.379 -1.433,0.221 -1.343,0.086 -1.317,0.07 -1.317,-0.026 -1.407,-0.16 -1.439,-0.318 -1.917,-0.318 -1.997,-0.22 -1.969,-0.078 -2,0.081 -2.09,0.215 -2.108,0.227 -2.133,0.352 -2.077,0.437 -2.045,0.595 -1.916,0.621 -1.875,0.613 -1.717,0.644 -1.582,0.734 -1.492,0.869 -1.461,1.027 -1.492,1.186 -1.582,1.32 -1.717,1.41 -1.875,1.442 -1.875,1.443 -1.94,1.456 -1.995,1.493 -1.999,1.489 -2.181,1.671 -2.178,1.674 -2.225,1.744 -2.241,1.823 -2.237,1.827 -2.287,2.209 -2.418,2.525 -2.338,2.623 -2.32,2.619 -2.161,2.651 -2.027,2.741 -1.937,2.875 -1.92,2.96 -1.908,2.958 -1.896,3.015 -1.835,3.107 -1.792,3.135 -1.789,3.153 -1.763,3.17 -1.733,3.215 -1.506,3.336 -1.206,3.427 -0.895,3.458 -0.078,3.458
  region: -3.412,4.829 -3.412,4.832 -1.407,4.832 -1.395,4.834 -1.172,4.79 -0.983,4.663 -0.977,4.654 -0.451,4.128 -0.452,4.127 -0.361,4.058 -0.402,3.937 -0.895,3.937 -0.895,3.943 -1.301,3.903 -1.692,3.784 -2.052,3.592 -2.235,3.441 -2.244,3.445 -2.257,3.436 -2.32,3.448 -2.478,3.417 -2.613,3.327 -2.695,3.203 -2.819,3.232 -2.841,3.396 -2.917,3.58 -3.038,3.738 -3.038,3.737 -3.181,3.847 -3.346,3.915 -3.524,3.939 -3.524,3.937 -3.774,3.937 -3.774,4.294 -3.672,4.294 -3.672,4.571 -4.426,4.571 -4.426,4.825 -3.601,4.825 -3.578,4.845
  lines w0.165: -6.536,0.151 cw(c-6.423,0.038) -6.423,0.198 -4.542,0.198 ; -6.527,5.733 -6.527,5.983 cw(c-5.736,5.983) -5.736,6.774 ; -6.523,0.938 -5.712,0.938 cw(c-5.712,0.505) -5.406,0.811 ccw(c-5.132,1.086) -5.132,0.698 -4.542,0.698 ; -6.244,1.561 cw(c-6.183,1.499) -6.183,1.586 -5.412,1.586 ccw(c-5.412,1.846) -5.228,1.662 cw(c-5.142,1.576) -5.142,1.698 -4.426,1.698 ; -5.609,2.094 cw(c-5.241,2.094) -5.501,2.354 ; -4.627,5.733 -4.627,5.824 ; -4.542,-4.302 -3.5,-4.302 ccw(c-3.5,-3.373) -2.843,-4.03 -2.828,-4.015 ; -4.542,-3.802 -3.964,-3.802 ccw(c-3.964,-3.704) -3.895,-3.773 cw(c-3.711,-3.957) -3.711,-3.697 -3.488,-3.697 ; -4.542,-3.302 -3.842,-3.302 ccw(c-3.842,-3.09) -3.691,-3.24 cw(c-3.507,-3.424) -3.507,-3.164 -3.376,-3.164 cw(c-3.376,-3.597) -3.069,-3.291 ccw(c-2.425,-2.647) -2.425,-3.558 -2.269,-3.558 ; -4.542,-2.802 -3.249,-2.802 cw(c-3.249,-3.191) -2.974,-2.916 ccw(c-2.683,-2.625) -2.683,-3.037 -2.609,-3.037 ccw(c-2.609,-2.43) -2.18,-2.859 ; -4.542,-2.302 -4.426,-2.302 -4.046,-2.302 cw(c-4.046,-2.642) -3.806,-2.402 ccw(c-3.605,-2.201) -3.605,-2.485 -2.865,-2.485 ccw(c-2.865,-2.288) -2.726,-2.427 ; -4.542,-1.802 -4.426,-1.802 -3.598,-1.802 cw(c-3.598,-2.245) -3.285,-1.932 ; -4.542,-1.302 ccw(c-4.463,-1.223) -4.463,-1.335 -4.463,-1.316 -3.107,-1.316 -3.107,-1.259 ; -4.542,1.198 -3.977,1.198 cw(c-3.977,0.919) -3.78,1.116 cw(c-4.455,0.442) -3.501,0.442 -3.501,0.265 ; -4.542,2.198 -3.877,2.198 cw(c-3.877,1.54) -3.412,2.005 cw(c-3.841,1.576) -3.234,1.576 -3.234,1.018 ccw(c-2.367,1.018) -2.98,0.405 -2.578,0.003 ccw(c-2.383,0.198) -2.383,-0.078 ; -4.542,2.698 -5.022,2.698 ccw(c-5.022,2.371) -5.253,2.602 -5.501,2.354 ; -4.542,3.198 -3.938,3.198 cw(c-3.938,3.028) -3.818,3.148 -3.178,2.508 cw(c-3.962,1.723) -2.853,1.723 -2.853,1.546 ccw(c-1.509,1.546) -2.459,0.595 ; -4.542,3.698 -3.524,3.698 cw(c-3.524,3.252) -3.209,3.567 cw(c-3.577,3.199) -3.056,3.199 ccw(c-2.35,3.199) -2.849,2.7 -2.844,2.695 cw(c-3.711,1.827) -2.485,1.827 ccw(c-2.025,1.827) -2.35,1.502 -1.875,1.027 ; -4.426,-4.802 cw(c-5.476,-5.853) -3.991,-5.853 ccw(c-3.427,-5.853) -3.826,-6.252 -3.572,-6.506 ccw(c-3.361,-6.295) -3.361,-6.593 ; -4.426,-0.802 -3.687,-0.802 cw(c-3.687,-0.887) -3.628,-0.827 ; -2.371,-5.691 -2.371,-5.431 cw(c-1.373,-5.431) -2.078,-4.726 cw(c-1.649,-5.155) -1.649,-4.548 -0.612,-4.548 ccw(c-0.612,-4.18) -0.351,-4.44 cw(c-0.018,-4.773) -0.018,-4.302 0.574,-4.302 ; -2.32,3.034 -2.194,3.16 cw(c-0.895,1.86) -0.895,3.698 0.674,3.698 1.371,3.698 ccw(c1.371,3.903) 1.516,3.758 ccw(c1.178,4.095) 1.655,4.095 1.655,5.789 cw(c3.13,5.789) 2.087,6.831 cw(c2.547,6.371) 2.547,7.022 2.817,7.022 cw(c2.817,6.546) 3.153,6.882 cw(c2.784,6.513) 3.306,6.513 cw(c2.786,6.513) 3.154,6.145 ccw(c3.645,5.655) 2.951,5.655 2.951,4.238 ccw(c3.958,4.238) 3.246,3.526 ccw(c3.729,4.01) 3.729,3.326 cw(c3.729,2.937) 4.005,3.212 cw(c3.559,2.767) 4.189,2.767 4.189,2.02 ccw(c4.362,2.02) 4.24,1.897 ccw(c4.408,2.066) 4.408,1.827 4.551,1.827 cw(c4.551,1.307) 4.919,1.675 cw(c4.153,0.908) 5.237,0.908 5.237,0.684 ; -1.71,-5.691 cw(c-0.974,-5.691) -1.495,-5.171 ; -1.659,-3.278 -1.554,-3.173 cw(c-0.971,-3.756) -0.971,-2.931 -0.462,-2.931 ccw(c-0.462,-2.685) -0.288,-2.859 cw(c-0.151,-2.996) -0.151,-2.802 0.674,-2.802 ; -1.164,-2.415 ccw(c-0.888,-2.139) -0.888,-2.529 -0.516,-2.529 ccw(c-0.516,-2.008) -0.148,-2.376 cw(c0.031,-2.555) 0.031,-2.302 0.674,-2.302 ; -1.05,0.379 -0.666,0.379 ccw(c-0.666,0.859) -0.327,0.52 ccw(c-0.65,0.844) -0.192,0.844 -0.192,0.938 cw(c0.067,0.938) 0.067,1.198 0.574,1.198 ; -1.024,-0.319 ccw(c-1.024,0.233) -0.634,-0.157 -0.469,0.008 ; -0.961,-3.431 -0.939,-3.409 cw(c-0.682,-3.666) -0.682,-3.302 0.674,-3.302 ; -0.72,-1.36 cw(c-0.661,-1.36) -0.661,-1.302 0.574,-1.302 ; -0.681,0.976 -0.681,1.062 cw(c0.706,1.062) -0.275,2.043 cw(c0.098,1.67) 0.098,2.198 0.674,2.198 ; -0.618,-2.034 cw(c-0.587,-2.064) -0.587,-2.021 -0.363,-2.021 ccw(c-0.363,-1.842) -0.237,-1.969 cw(c0.164,-2.37) 0.164,-1.802 0.674,-1.802 ; -0.542,-3.951 cw(c-0.182,-4.311) -0.182,-3.802 0.674,-3.802 ; 0.574,-4.802 -0.075,-4.802 ccw(c-0.075,-5.409) -0.504,-4.98 cw(c-0.718,-4.765) -0.718,-5.069 -1.249,-5.069 ccw(c-1.249,-5.416) -1.494,-5.17 ; 0.674,-0.302 1.195,-0.302 cw(c1.195,-0.576) 1.389,-0.383 cw(c1.198,-0.573) 1.468,-0.573 1.468,-2.462 ccw(c2.585,-2.462) 1.795,-3.253 1.875,-3.333 ccw(c2.449,-2.759) 2.449,-3.57 2.481,-3.57 ; 0.674,0.198 -0.011,0.198 ccw(c-0.011,-0.45) -0.468,0.008 ; 0.674,0.698 1.373,0.698 cw(c1.373,0.416) 1.572,0.615 cw(c1.057,0.101) 1.785,0.101 1.785,-2.172 ccw(c2.223,-2.172) 1.913,-2.482 ccw(c2.455,-1.94) 2.455,-2.707 ; 0.674,1.698 1.168,1.698 cw(c1.168,1.403) 1.376,1.611 cw(c1.131,1.366) 1.478,1.366 ccw(c1.959,1.366) 1.618,1.026 1.697,0.947 2.031,0.614 cw(c1.133,-0.284) 2.403,-0.284 2.403,-0.908 cw(c2.193,-0.908) 2.341,-1.056 ; 0.674,2.698 1.113,2.698 cw(c1.113,0.884) 2.396,2.166 2.417,2.145 ; 3.313,-3.212 3.313,-2.125 ccw(c3.01,-2.125) 3.224,-1.911 cw(c3.45,-2.137) 3.45,-1.818 cw(c3.634,-2.002) 3.634,-1.741 ; 3.332,0.456 3.332,1.23 ccw(c2.966,1.23) 3.225,1.488 ; 3.511,1.37 cw(c3.511,1.776) 3.225,1.488 ; 4.9,-4.641 ccw(c4.354,-4.641) 4.74,-4.255 4.284,-3.799 cw(c4.714,-3.37) 4.106,-3.37 4.106,-2.64 cw(c4.497,-2.64) 4.221,-2.364 cw(c4.372,-2.515) 4.372,-2.301 4.616,-2.301 ccw(c4.616,-1.908) 4.894,-2.186 ccw(c4.526,-1.818) 5.046,-1.818 5.046,-0.699 ccw(c4.743,-0.699) 4.958,-0.484 ccw(c4.743,-0.699) 4.957,-0.484 ; -5.501,2.354 cw(c-5.241,2.094) -5.501,2.354 ; -5.501,2.354 -5.501,2.354 ; -1.495,-5.171 -1.494,-5.17 ; -0.469,0.008 cw(c-0.011,-0.45) -0.468,0.008 ; -0.469,0.008 -0.468,0.008 ; 3.225,1.488 ccw(c3.511,1.776) 3.225,1.488 ; 3.225,1.488 ccw(c2.966,1.23) 3.225,1.488 ; 3.224,1.489 ccw(c3.511,1.776) 3.225,1.488 ; 3.225,1.488 ccw(c2.964,1.229) 3.224,1.489
  lines w0.203: -6.422,-3.304 -6.422,-2.771 cw(c-6.248,-2.771) -6.371,-2.649 ; -6.371,-0.949 cw(c-4.811,-2.509) -4.811,-0.302 -3.309,-0.302 cw(c-3.309,-1.27) -2.625,-0.586 -1.913,-1.297 ; -6.371,4.408 -7.125,4.408 ; -6.346,-7.634 cw(c-6.284,-7.573) -6.371,-7.573 -6.371,-6.776 -5.314,-6.776 cw(c-5.314,-7.364) -4.898,-6.948 ccw(c-4.193,-6.243) -4.193,-7.241 -2.742,-7.241 ccw(c-2.742,-6.086) -1.926,-6.902 ; -4.669,-6.301 cw(c-4.669,-5.149) -5.484,-5.963 -6.371,-5.076 -6.381,-5.066 cw(c-4.585,-3.27) -7.125,-3.27 -7.125,-1.579 -7.146,-1.558 -7.146,-1.137 -7.125,-1.117 -7.125,4.408 ; -4.594,8.166 cw(c-3.463,7.034) -3.463,8.634 1.131,8.634 cw(c1.131,6.264) 2.807,7.94 2.849,7.898 3.151,7.898 cw(c3.151,6.771) 3.948,7.568 5.033,6.482 ; -3.99,7.568 ccw(c-4.555,7.568) -4.555,8.133 -4.627,8.133 ccw(c-4.627,6.525) -5.764,7.662 -6.196,7.23 cw(c-6.53,7.563) -6.53,7.091 -6.623,7.091 ccw(c-6.623,6.549) -7.006,6.933 ccw(c-6.719,6.645) -7.125,6.645 -7.125,4.408 ; -1.329,-7.052 ccw(c-1.329,-4.512) 0.467,-6.308 1.52,-5.255 cw(c3.313,-7.047) 3.313,-4.512 3.313,-5.123 ccw(c3.687,-5.123) 3.422,-5.388 cw(c2.884,-5.926) 3.645,-5.926 ccw(c3.937,-5.635) 3.937,-6.047 4.348,-6.047 4.645,-6.047 ccw(c4.645,-5.686) 4.9,-5.941 ; -1.215,1.408 -1.215,1.136 cw(c-1.679,1.136) -1.351,0.808 ccw(c0.007,-0.55) -1.913,-0.55 -1.913,-1.297 ; -0.466,6.78 cw(c1.006,5.309) 1.006,7.39 3.058,7.39 cw(c3.058,6.913) 3.395,7.25 cw(c2.55,6.405) 3.745,6.405 3.745,4.421 ccw(c4.721,4.421) 4.031,3.732 4.17,3.593 ccw(c4.921,4.344) 4.921,3.281 5.421,3.281 5.427,3.275 ; 0.674,-0.802 -0.689,-0.802 ccw(c-0.689,-2.534) -1.913,-1.31 -1.913,-1.297 ; 0.674,3.198 1.77,3.198 ; 0.817,-6.796 cw(c0.97,-6.796) 0.862,-6.688 ; 1.592,-6.758 1.671,-6.758 cw(c1.671,-7.712) 2.345,-7.037 ; 1.846,1.802 ccw(c2.674,1.802) 2.088,1.217 2.179,1.126 ; 2.345,-5.926 ccw(c2.345,-7.668) 1.113,-6.436 0.862,-6.688 ; 2.608,6.463 ccw(c3.483,5.587) 2.245,5.587 2.245,4.421 2.245,3.787 cw(c1.576,3.787) 2.049,3.313 cw(c1.77,3.592) 1.77,3.198 ; 3.103,2.665 ccw(c1.818,1.381) 1.818,3.198 1.77,3.198 ; 3.645,-7.037 ccw(c3.676,-7.007) 3.676,-7.05 4.348,-7.05 4.715,-7.05 ccw(c4.715,-6.096) 5.389,-6.771 ccw(c5.021,-6.403) 5.542,-6.403 5.542,-0.517 ccw(c4.848,-0.517) 5.338,-0.027 ccw(c5.001,-0.364) 5.001,0.113 4.847,0.113 ccw(c4.847,-0.234) 4.602,0.011 cw(c4.019,0.594) 4.019,-0.23 2.9,-0.23 2.9,-0.083 ccw(c1.722,-0.083) 2.555,0.75 2.179,1.126 ; 4.157,1.357 3.542,1.357 cw(c3.542,1.807) 3.225,1.488 ; 4.792,3.986 cw(c5.377,3.986) 4.964,4.4 5.218,4.654 ; 5.218,6.036 ccw(c4.587,6.036) 5.033,6.482 ; 0.862,-6.688 ccw(c0.97,-6.796) 0.862,-6.688 ; 0.862,-6.688 0.862,-6.688 ; 2.179,1.126 ccw(c2.309,1.256) 2.179,1.126 ; 2.179,1.126 2.179,1.126 ; 3.224,1.489 ccw(c3.542,1.807) 3.225,1.488 ; 5.033,6.482 ccw(c4.587,6.036) 5.033,6.482 ; 5.033,6.482 5.033,6.482 ; 5.218,4.654 5.218,4.654
  lines w0.254: -7.006,-7.609 ccw(c-6.945,-7.547) -6.945,-7.634 -6.346,-7.634 -5.406,-7.634 ; -6.371,4.408 ccw(c-5.864,4.915) -5.864,4.198 -4.542,4.198 ; -5.736,6.774 -5.669,6.774 cw(c-5.669,5.733) -4.627,5.733 -4.435,5.54 ccw(c-3.412,6.563) -3.412,5.117 -1.407,5.117 cw(c-1.407,4.224) -0.775,4.855 ; -5.577,5.733 cw(c-5.577,5.688) -5.533,5.688 -5.533,5.078 ccw(c-5.152,5.078) -5.152,4.698 -4.426,4.698 ; -1.926,6.958 -0.895,6.958 cw(c-0.895,6.351) -0.466,6.78 ; 0.674,4.198 0.068,4.198 cw(c0.068,4.647) -0.25,4.329 -0.775,4.855 ; 0.674,4.698 -0.225,4.698 cw(c-0.225,5.738) -0.775,4.855
Top Overlay:
  circle w0.25: c1.649,3.053 r0.125
  region: -4.926,1.678 -4.926,-4.322 1.074,-4.322 1.074,1.678
  region: -7.649,9.2 -5.749,9.2 -7.649,7.362
  lines w0.152: 2.297,6.552 ccw(c2.551,6.552) 2.551,6.298 4.075,6.298 ccw(c4.075,6.552) 4.329,6.552 4.329,8.203 ccw(c4.075,8.203) 4.075,8.457 2.551,8.457 ccw(c2.551,8.203) 2.297,8.203 2.297,6.552
  lines w0.2: -5.651,-4.622 -5.651,-5.047 -5.226,-5.047 ; -5.651,1.978 -5.651,2.403 -5.226,2.403 ; 1.374,-5.047 1.799,-5.047 1.799,-4.622 ; 1.374,2.403 1.799,2.403 1.799,1.978 ; 4.818,7.839 5.618,7.839
  text "Powered by function" at -6.904,-6.644 h0.51
  text "Rev1" at -6.181,-5.196 h0.51
  text "JLCJLCJLCJLC" at -4.276,-7.787 h0.51
  text "20151120" at 2.9,-7.469 h0.51
  text "3GICOR" at 3.713,-5.945 h0.51
Bottom Overlay:
  circle w0.25: c-3.752,5.733 r0.125
  circle w0.203: c2.995,8.221 r2.4
  rectangle: -3.826,-6.152 -0.026,6.048
  rectangle: 3.024,-2.411 5.324,1.964
  region: -7.649,9.2 -6.53,9.2 -7.649,8.044
  lines w0.178: -3.826,-5.132 -3.826,-6.152 -3.018,-6.152 ; -3.826,5.028 -3.826,6.048 -3.018,6.048 ; -0.834,6.048 -0.026,6.048 -0.026,5.028 ; -0.808,-6.152 -0.001,-6.152 -0.001,-5.132 ; 3.024,-1.261 3.024,0.814 ; 3.049,-2.386 5.324,-2.386 5.324,1.964 3.049,1.964 ; 5.324,-1.211 6.724,-1.211 6.724,0.789 5.349,0.789
  lines w0.2: 4.818,3.486 5.618,3.486 ; -7.127,6.683 -4.027,6.683 -4.027,7.183 -7.127,7.183 -7.127,6.683
  text "+" at 1.795,5.821 h0.51
  text "-" at 4.095,5.821 h0.51
Mechanical 1:
  lines w0.254: -7.649,-8.2 -7.649,9.2 6.351,9.2 6.351,-8.2 -7.649,-8.2
Mechanical 13:
  circle w0.1: c0.749,1.353 r0.5
  lines w0.1: -7.127,6.033 -7.127,7.833 -4.027,7.833 -4.027,6.033 -7.127,6.033 ; -5.501,-4.897 1.649,-4.897 1.649,2.253 -5.501,2.253 -5.501,-4.897
Mechanical 15:
  lines w0.1: -6.077,6.933 -5.077,6.933 ; -5.577,6.433 -5.577,7.433 ; -2.426,-1.322 -1.426,-1.322 ; -1.926,-1.822 -1.926,-0.822 ; -7.377,4.933 -7.377,8.933 -3.777,8.933 -3.777,4.933 -7.377,4.933 ; -6.076,-5.472 2.224,-5.472 2.224,2.828 -6.076,2.828 -6.076,-5.472
Mechanical 16:
  lines w0.127: 1.203,7.713 0.695,8.221 ; 1.203,8.721 0.695,8.221 ; 2.487,8.221 0.695,8.221 ; 3.495,8.221 5.295,8.221 ; 4.795,7.713 5.295,8.221 ; 4.795,8.721 5.295,8.221
  text "4.8MM" at 3.295,9.421 h0.94
3D body: height 1.8, standoff 0, extent 3.024,-2.411 5.324,1.989
3D body: height 1.4, standoff 0.4, extent 5.349,-1.211 6.724,0.789
3D body: height 0.9, standoff 0, extent -5.501,-4.897 1.649,2.253
3D body: height 1.45, standoff 0, extent -7.127,6.033 -4.027,7.833

## coreplay_testboard_fx [mm]
pads (276):
  rect 1.3x1.5 smd: 1(-39.802,-43.827) 1(-39.802,-38.747) 1(-39.802,-33.667) 1(-39.802,-28.587) 1(-39.802,-23.507) 1(-39.802,-18.427) 1(-39.802,-13.347) 1(-39.802,-8.267) 1(-39.802,-3.187) 1(-39.802,1.893) 1(-39.802,6.973) 1(-39.802,12.053) 1(-39.802,17.133) 1(-39.802,22.213) 1(-39.802,27.293) 1(-39.802,32.373) 1(-39.802,37.453) 1(-39.802,43.803) 1(-37.902,-46.367) 1(-37.902,-41.287) 1(-37.902,-36.207) 1(-37.902,-31.127) 1(-37.902,-26.047) 1(-37.902,-20.967) 1(-37.902,-15.887) 1(-37.902,-10.807) 1(-37.902,-5.727) 1(-37.902,-0.647) 1(-37.902,4.433) 1(-37.902,9.513) 1(-37.902,14.593) 1(-37.902,19.673) 1(-37.902,24.753) 1(-37.902,29.833) 1(-37.902,34.913) 1(-37.902,41.263) 1(37.033,-41.92) 1(37.033,-37.475) 1(37.033,-32.713) 1(37.033,-28.268) 1(37.033,-23.188) 1(37.033,-2.868) 1(37.033,2.212) 1(37.033,7.292) 1(37.033,12.372) 1(37.033,17.452) 1(37.033,22.532) 1(37.033,27.612) 1(37.033,32.692) 1(38.933,-39.698) 1(38.933,-35.253) 1(38.933,-30.49) 1(38.933,-25.728) 1(38.933,-20.648) 1(38.933,-0.328) 1(38.933,4.752) 1(38.933,9.832) 1(38.933,14.912) 1(38.933,19.992) 1(38.933,25.072) 1(38.933,30.152) 1(38.933,35.232) 2(-39.802,-46.367) 2(-39.802,-41.287) 2(-39.802,-36.207) 2(-39.802,-31.127) 2(-39.802,-26.047) 2(-39.802,-20.967) 2(-39.802,-15.887) 2(-39.802,-10.807) 2(-39.802,-5.727) 2(-39.802,-0.647) 2(-39.802,4.433) 2(-39.802,9.513) 2(-39.802,14.593) 2(-39.802,19.673) 2(-39.802,24.753) 2(-39.802,29.833) 2(-39.802,34.913) 2(-39.802,41.263) 2(-37.902,-43.827) 2(-37.902,-38.747) 2(-37.902,-33.667) 2(-37.902,-28.587) 2(-37.902,-23.507) 2(-37.902,-18.427) 2(-37.902,-13.347) 2(-37.902,-8.267) 2(-37.902,-3.187) 2(-37.902,1.893) 2(-37.902,6.973) 2(-37.902,12.053) 2(-37.902,17.133) 2(-37.902,22.213) 2(-37.902,27.293) 2(-37.902,32.373) 2(-37.902,37.453) 2(-37.902,43.803) 2(37.033,-39.698) 2(37.033,-35.253) 2(37.033,-30.49) 2(37.033,-25.728) 2(37.033,-20.648) 2(37.033,-0.328) 2(37.033,4.752) 2(37.033,9.832) 2(37.033,14.912) 2(37.033,19.992) 2(37.033,25.072) 2(37.033,30.152) 2(37.033,35.232) 2(38.933,-41.92) 2(38.933,-37.475) 2(38.933,-32.713) 2(38.933,-28.268) 2(38.933,-23.188) 2(38.933,-2.868) 2(38.933,2.212) 2(38.933,7.292) 2(38.933,12.372) 2(38.933,17.452) 2(38.933,22.532) 2(38.933,27.612) 2(38.933,32.692)
  rect 1.5x1.3 smd: 1(-35.677,-46.048) 1(-35.677,-40.968) 1(-35.677,-35.888) 1(-35.677,-30.808) 1(-35.677,-25.728) 1(-35.677,-20.648) 1(-35.677,-15.568) 1(-35.677,-10.488) 1(-35.677,-5.408) 1(-35.677,-0.328) 1(-35.677,4.752) 1(-35.677,9.832) 1(-35.677,14.912) 1(-35.677,19.992) 1(-35.677,25.072) 1(-35.677,30.152) 1(-35.677,35.232) 1(34.173,-12.708) 1(34.808,-41.918) 1(34.808,-37.473) 1(34.808,-32.71) 1(34.808,-27.948) 1(34.808,-22.868) 1(34.808,-2.548) 1(34.808,2.532) 1(34.808,7.612) 1(34.808,12.692) 1(34.808,17.772) 1(34.808,22.852) 1(34.808,27.932) 1(34.808,33.012) 1(36.713,-12.712) 1(36.713,-8.267) 1(39.253,-14.613) 1(39.253,-10.168) 2(-35.677,-44.147) 2(-35.677,-39.067) 2(-35.677,-33.987) 2(-35.677,-28.907) 2(-35.677,-23.827) 2(-35.677,-18.747) 2(-35.677,-13.667) 2(-35.677,-8.587) 2(-35.677,-3.507) 2(-35.677,1.573) 2(-35.677,6.653) 2(-35.677,11.733) 2(-35.677,16.813) 2(-35.677,21.893) 2(-35.677,26.973) 2(-35.677,32.053) 2(-35.677,37.133) 2(34.173,-10.807) 2(34.808,-40.017) 2(34.808,-35.572) 2(34.808,-30.81) 2(34.808,-26.047) 2(34.808,-20.967) 2(34.808,-0.647) 2(34.808,4.433) 2(34.808,9.513) 2(34.808,14.593) 2(34.808,19.673) 2(34.808,24.753) 2(34.808,29.833) 2(34.808,34.913) 2(36.713,-14.613) 2(36.713,-10.168) 2(39.253,-12.712) 2(39.253,-8.267)
  rect 1.5x1.5 hole 0.9: 1(-20.437,-26.047) 1(17.663,-26.047)
  rrect100% 1.118x0.254 smd: 1(-4.63,-3.6)
  round 1.5 hole 0.9: 2(-20.437,-23.507) 2(17.663,-23.507) 3(-20.437,-20.967) 3(17.663,-20.967) 4(-20.437,-18.427) 4(17.663,-18.427) 5(-20.437,-15.887) 5(17.663,-15.887) 6(-20.437,-13.347) 6(17.663,-13.347) 7(-20.437,-10.807) 7(17.663,-10.807) 8(-20.437,-8.267) 8(17.663,-8.267) 9(-20.437,-5.727) 9(17.663,-5.727) 10(-20.437,-3.187) 10(17.663,-3.187) 11(-20.437,-0.647) 11(17.663,-0.647) 12(-20.437,1.893) 12(17.663,1.893) 13(-20.437,4.433) 13(17.663,4.433) 14(-20.437,6.973) 14(17.663,6.973) 15(-20.437,9.513) 15(17.663,9.513) 16(-20.437,12.053) 16(17.663,12.053) 17(-20.437,14.593) 17(17.663,14.593) 18(-20.437,17.133) 18(17.663,17.133) 19(-20.437,19.673) 19(17.663,19.673) 20(-20.437,22.213) 20(17.663,22.213)
  rect 1.118x0.254 smd: 2(0.586,-3.6) 3(-4.63,-3.1) 4(0.586,-3.1) 5(-4.63,-2.6) 6(0.586,-2.6) 7(-4.63,-2.1) 8(0.586,-2.1) 9(-4.63,-1.6) 10(0.586,-1.6) 11(-4.63,-1.1) 12(0.586,-1.1) 13(-4.63,-0.6) 14(0.586,-0.6) 15(-4.63,-0.1) 16(0.586,-0.1) 17(-4.63,0.4) 18(0.586,0.4) 19(-4.63,0.9) 20(0.586,0.9) 21(-4.63,1.4) 22(0.586,1.4) 23(-4.63,1.9) 24(0.586,1.9) 25(-4.63,2.4) 26(0.586,2.4) 27(-4.63,2.9) 28(0.586,2.9) 29(-4.63,3.4) 30(0.586,3.4) 31(-4.63,3.9) 32(0.586,3.9) 33(-4.63,4.4) 34(0.586,4.4) 35(-4.63,4.9) 36(0.586,4.9) 37(-4.63,5.4) 38(0.586,5.4) 39(-4.63,5.9) 40(0.586,5.9)
  rect 2.108x1.422 smd: 41(-2.014,-5.85) 42(-2.014,8.161)
via -3.914,7.174 diameter 0.66 hole 0.66
via -3.914,-4.874 diameter 0.66 hole 0.66
Top Layer:
  drawing of 1252 lines, arcs and shapes, not listed
  text "1K" at -49.088,43.18 h1.52
  text "KA" at -49.012,40.424 h1.52
  text "1K" at -49.697,36.449 h1.52
  text "KA" at -49.659,33.973 h1.52
  text ".1M" at -44.935,34.303 h1.52
  text ".1M" at -44.935,29.172 h1.52
  text "KA" at -49.659,28.842 h1.52
  text "1K" at -49.697,31.318 h1.52
  text ".1M" at -44.96,24.168 h1.52
  text "KA" at -49.685,23.838 h1.52
  text "1K" at -49.723,26.315 h1.52
  text "<--..." at -46.687,12.459 h1.52
  text "<--..." at 44.46,22.047 h1.52
  text ".1M" at 36.015,40.348 h1.52
  text "AK" at 37.272,39.98 h1.52
  text "1K" at 37.171,42.71 h1.52
  text ".1M->" at 29.665,-17.526 h1.02
  text "AK->" at 31.138,-5.054 h1.02
  text "1K" at 45.426,-9.969 h1.02
  text "AK" at 45.426,-14.122 h1.02
  text "1K->" at 32.421,-18.77 h1.02
  text "..." at 43.991,-32.74 h1.52
  text "Powered by function" at -24.12,-46.837 h6.35
Top Overlay:
  region: -7.737,10.403 -5.837,10.403 -7.737,8.565
  lines w0.2: -40.752,-47.017 -40.752,-45.717 ; -40.752,-41.937 -40.752,-40.637 ; -40.752,-36.857 -40.752,-35.557 ; -40.752,-31.777 -40.752,-30.477 ; -40.752,-26.697 -40.752,-25.398 ; -40.752,-21.617 -40.752,-20.318 ; -40.752,-16.537 -40.752,-15.238 ; -40.752,-11.457 -40.752,-10.158 ; -40.752,-6.377 -40.752,-5.078 ; -40.752,-1.297 -40.752,0.002 ; -40.752,3.783 -40.752,5.082 ; -40.752,8.863 -40.752,10.162 ; -40.752,13.943 -40.752,15.242 ; -40.752,19.023 -40.752,20.322 ; -40.752,24.103 -40.752,25.402 ; -40.752,29.183 -40.752,30.482 ; -40.752,34.263 -40.752,35.562 ; -40.752,40.613 -40.752,41.913 ; 36.063,-11.117 37.363,-11.117 ; 38.603,-11.762 39.903,-11.762 ; 39.883,-42.57 39.883,-41.27 ; 39.883,-38.125 39.883,-36.825 ; 39.883,-33.363 39.883,-32.063 ; 39.883,-28.918 39.883,-27.618 ; 39.883,-23.838 39.883,-22.538 ; 39.883,-3.517 39.883,-2.218 ; 39.883,1.563 39.883,2.862 ; 39.883,6.643 39.883,7.942 ; 39.883,11.722 39.883,13.022 ; 39.883,16.803 39.883,18.102 ; 39.883,21.883 39.883,23.182 ; 39.883,26.963 39.883,28.262 ; 39.883,32.043 39.883,33.342 ; -21.707,-27.317 -19.167,-27.317 -19.167,23.483 -21.707,23.483 -21.707,-25.412 -21.707,-27.317 ; 16.393,-27.317 18.933,-27.317 18.933,23.483 16.393,23.483 16.393,-25.412 16.393,-27.317
  lines w0.254: -7.737,-4.837 -7.737,-6.997 -5.577,-6.997 ; -7.737,8.243 -7.737,10.403 -5.577,10.402 ; -4.427,-6.35 -3.233,-6.35 ; -4.427,8.669 -3.233,8.669 ; -0.814,-6.35 0.386,-6.35 ; -0.814,8.669 0.386,8.669 ; 4.103,-6.997 6.263,-6.997 6.263,-4.837 ; 4.103,10.403 6.263,10.403 6.263,8.243 ; -3.919,-4.15 -3.436,-4.65 -0.614,-4.65 -0.114,-4.15 -0.114,6.459 -0.614,6.967 -3.436,6.967 -3.919,6.459 -3.919,-4.15
  text "STM32Coreplay-48" at -5.882,9.36 h0.64

## pogopin_track [mm]
pads (16):
  rect 1.524x1.524 smd: 8(0.55,13) 9(0.55,15.34) 10(0.55,18.54) 11(0.55,20.88) 12(-20.88,0.55) 13(-18.54,0.55) 14(-15.34,0.55) 15(-13,0.55) 16(0.55,-13) 17(0.55,-15.34) 18(0.55,-18.54) 19(0.55,-20.88) 20(13,0.55) 21(15.34,0.55) 22(18.54,0.55) 23(20.88,0.55)
Top Overlay:
  circle w0.254: c0,-0.1 r13
  circle w0.254: c0.15,0.15 r15.34
  circle w0.254: c-0.1,-0.1 r18.54
  circle w0.254: c-0.1,-0.1 r20.88
  lines w0.245: -20.88,0 20.88,0 ; -16.995,-1.39 -16.995,1.39 ; 0,-20.88 0,11.4 ; -1.39,16.995 1.39,16.995 ; -1.39,16.995 -1.39,11.455 1.39,11.455 1.39,16.995 ; -1.39,16.995 -1.39,22.535 1.39,22.535 1.39,16.995 ; -22.535,-1.39 -22.535,1.39 -11.455,1.39 -11.455,-1.39 -22.535,-1.39 ; -1.39,-22.535 1.39,-22.535 1.39,-11.455 -1.39,-11.455 -1.39,-22.535 ; 11.455,-1.39 22.535,-1.39 22.535,1.39 11.455,1.39 11.455,-1.39
Keep-Out Layer:
  circle w0.254: c0,0 r2.95